# EAGLE library part ZIF-NEW (library ZIF-NEW)
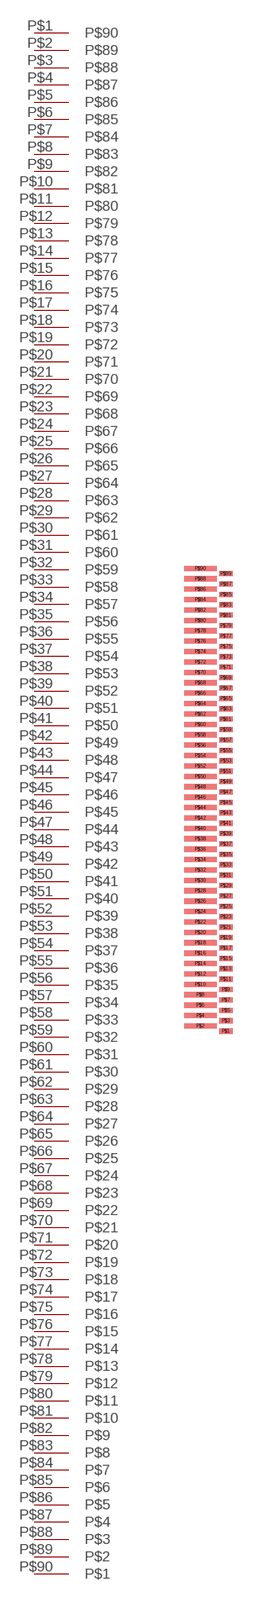
[diagram p0: symbol with the pads of ZIF-NEW; footprint ZIF-NEW]

Designator prefix -

## ZIF-NEW  [ZIF-NEW]
P$1  P$90
P$2  P$89
P$3  P$88
P$4  P$87
P$5  P$86
P$6  P$85
P$7  P$84
P$8  P$83
P$9  P$82
P$10  P$81
P$11  P$80
P$12  P$79
P$13  P$78
P$14  P$77
P$15  P$76
P$16  P$75
P$17  P$74
P$18  P$73
P$19  P$72
P$20  P$71
P$21  P$70
P$22  P$69
P$23  P$68
P$24  P$67
P$25  P$66
P$26  P$65
P$27  P$64
P$28  P$63
P$29  P$62
P$30  P$61
P$31  P$60
P$32  P$59
P$33  P$58
P$34  P$57
P$35  P$56
P$36  P$55
P$37  P$54
P$38  P$53
P$39  P$52
P$40  P$51
P$41  P$50
P$42  P$49
P$43  P$48
P$44  P$47
P$45  P$46
P$46  P$45
P$47  P$44
P$48  P$43
P$49  P$42
P$50  P$41
P$51  P$40
P$52  P$39
P$53  P$38
P$54  P$37
P$55  P$36
P$56  P$35
P$57  P$34
P$58  P$33
P$59  P$32
P$60  P$31
P$61  P$30
P$62  P$29
P$63  P$28
P$64  P$27
P$65  P$26
P$66  P$25
P$67  P$24
P$68  P$23
P$69  P$22
P$70  P$21
P$71  P$20
P$72  P$19
P$73  P$18
P$74  P$17
P$75  P$16
P$76  P$15
P$77  P$14
P$78  P$13
P$79  P$12
P$80  P$11
P$81  P$10
P$82  P$9
P$83  P$8
P$84  P$7
P$85  P$6
P$86  P$5
P$87  P$4
P$88  P$3
P$89  P$2
P$90  P$1

## Footprint ZIF-NEW (pad centres in mm)
smd 0.8 x 0.3: P$1 0,0; P$3 0,0.6; P$5 0,1.2; P$7 0,1.8; P$9 0,2.4; P$11 0,3; P$13 0,3.6; P$15 0,4.2; P$17 0,4.8; P$19 0,5.4; P$21 0,6; P$23 0,6.6; P$25 0,7.2; P$27 0,7.8; P$29 0,8.4; P$31 0,9; P$33 0,9.6; P$35 0,10.2; P$37 0,10.8; P$39 0,11.4; P$41 0,12; P$43 0,12.6; P$45 0,13.2; P$47 0,13.8; P$49 0,14.4; P$51 0,15; P$53 0,15.6; P$55 0,16.2; P$57 0,16.8; P$59 0,17.4; P$61 0,18; P$63 0,18.6; P$65 0,19.2; P$67 0,19.8; P$69 0,20.4; P$71 0,21; P$73 0,21.6; P$75 0,22.2; P$77 0,22.8; P$79 0,23.4; P$81 0,24; P$83 0,24.6; P$85 0,25.2; P$87 0,25.8; P$89 0,26.4
smd 1.9 x 0.3: P$2 -1.47,0.3; P$4 -1.47,0.9; P$6 -1.47,1.5; P$8 -1.47,2.1; P$10 -1.47,2.7; P$12 -1.47,3.3; P$14 -1.47,3.9; P$16 -1.47,4.5; P$18 -1.47,5.1; P$20 -1.47,5.7; P$22 -1.47,6.3; P$24 -1.47,6.9; P$26 -1.47,7.5; P$28 -1.47,8.1; P$30 -1.47,8.7; P$32 -1.47,9.3; P$34 -1.47,9.9; P$36 -1.47,10.5; P$38 -1.47,11.1; P$40 -1.47,11.7; P$42 -1.47,12.3; P$44 -1.47,12.9; P$46 -1.47,13.5; P$48 -1.47,14.1; P$50 -1.47,14.7; P$52 -1.47,15.3; P$54 -1.47,15.9; P$56 -1.47,16.5; P$58 -1.47,17.1; P$60 -1.47,17.7; P$62 -1.47,18.3; P$64 -1.47,18.9; P$66 -1.47,19.5; P$68 -1.47,20.1; P$70 -1.47,20.7; P$72 -1.47,21.3; P$74 -1.47,21.9; P$76 -1.47,22.5; P$78 -1.47,23.1; P$80 -1.47,23.7; P$82 -1.47,24.3; P$84 -1.47,24.9; P$86 -1.47,25.5; P$88 -1.47,26.1; P$90 -1.47,26.7